# EAGLE library part W5500IO-MINI (library WIZnet)
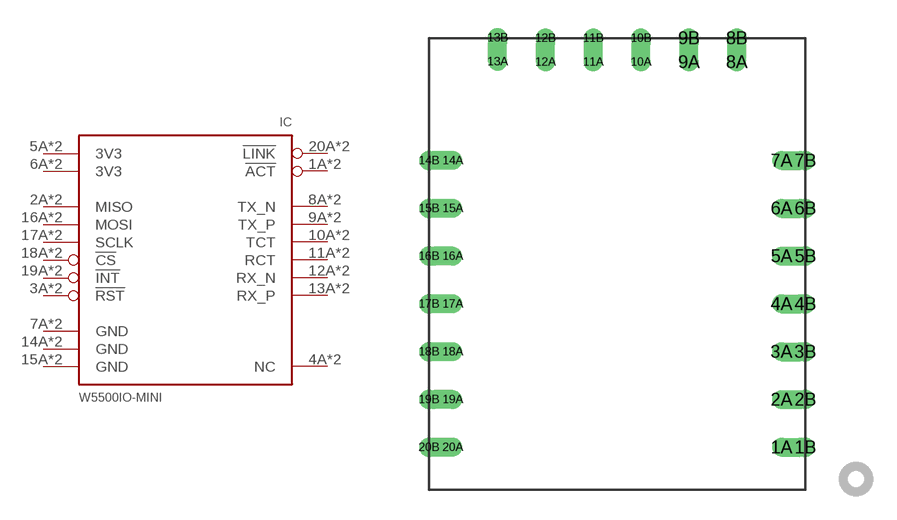
[diagram p12: symbol with the pads of W...IO-MINI; footprint W...IO-MINI]

Designator prefix IC

## W5500IO-MINI (VALUE: W5500-io-mini)  [W...IO-MINI]
1A  !ACT  out
1B  !ACT  out
2A  MISO  out
2B  MISO  out
3A  !RST  in
3B  !RST  in
4A  NC  nc
4B  NC  nc
5A  3V3  pwr
5B  3V3  pwr
6A  3V3  pwr
6B  3V3  pwr
7A  GND  pwr
7B  GND  pwr
8A  TX_N  out
8B  TX_N  out
9A  TX_P  out
9B  TX_P  out
10A  TCT  pwr
10B  TCT  pwr
11A  RCT  pwr
11B  RCT  pwr
12A  RX_N  in
12B  RX_N  in
13A  RX_P  in
13B  RX_P  in
14A  GND  pwr
14B  GND  pwr
15A  GND  pwr
15B  GND  pwr
16A  MOSI  in
16B  MOSI  in
17A  SCLK  in
17B  SCLK  in
18A  !CS  in
18B  !CS  in
19A  !INT  out
19B  !INT  out
20A  !LINK  out
20B  !LINK  out

## Footprint W...IO-MINI (pad centres in mm)
universal Footrint for WIZnet "Mini" io Network Modules: W5500-io Mini, W6100-io Mini and W5100S-io Mini
drill 0.5 offset: 1A 8.73,-9.75; 2A 8.73,-7.21; 3A 8.73,-4.67; 4A 8.73,-2.13; 5A 8.73,0.41; 6A 8.73,2.95; 7A 8.73,5.49; 8A 6.35,10.73; 9A 3.81,10.73; 10A 1.27,10.73; 11A -1.27,10.73; 12A -3.81,10.73; 13A -6.35,10.75; 14A -8.73,5.49; 15A -8.73,2.95; 16A -8.73,0.41; 17A -8.73,-2.13; 18A -8.73,-4.67; 19A -8.73,-7.21; 20A -8.73,-9.75
drill 0.5: 1B 10,-9.75; 2B 10,-7.21; 3B 10,-4.67; 4B 10,-2.13; 5B 10,0.41; 6B 10,2.95; 7B 10,5.49; 8B 6.35,12; 9B 3.81,12; 10B 1.27,12; 11B -1.27,12; 12B -3.81,12; 13B -6.35,12.02; 14B -10,5.49; 15B -10,2.95; 16B -10,0.41; 17B -10,-2.13; 18B -10,-4.67; 19B -10,-7.21; 20B -10,-9.75